# Altium schematic symbol library Sykam-LagerBauteile1.SchLib: 51 symbols (part 1 of 3)
Pins are listed as number, name and electrical type; pins without a type are passive.

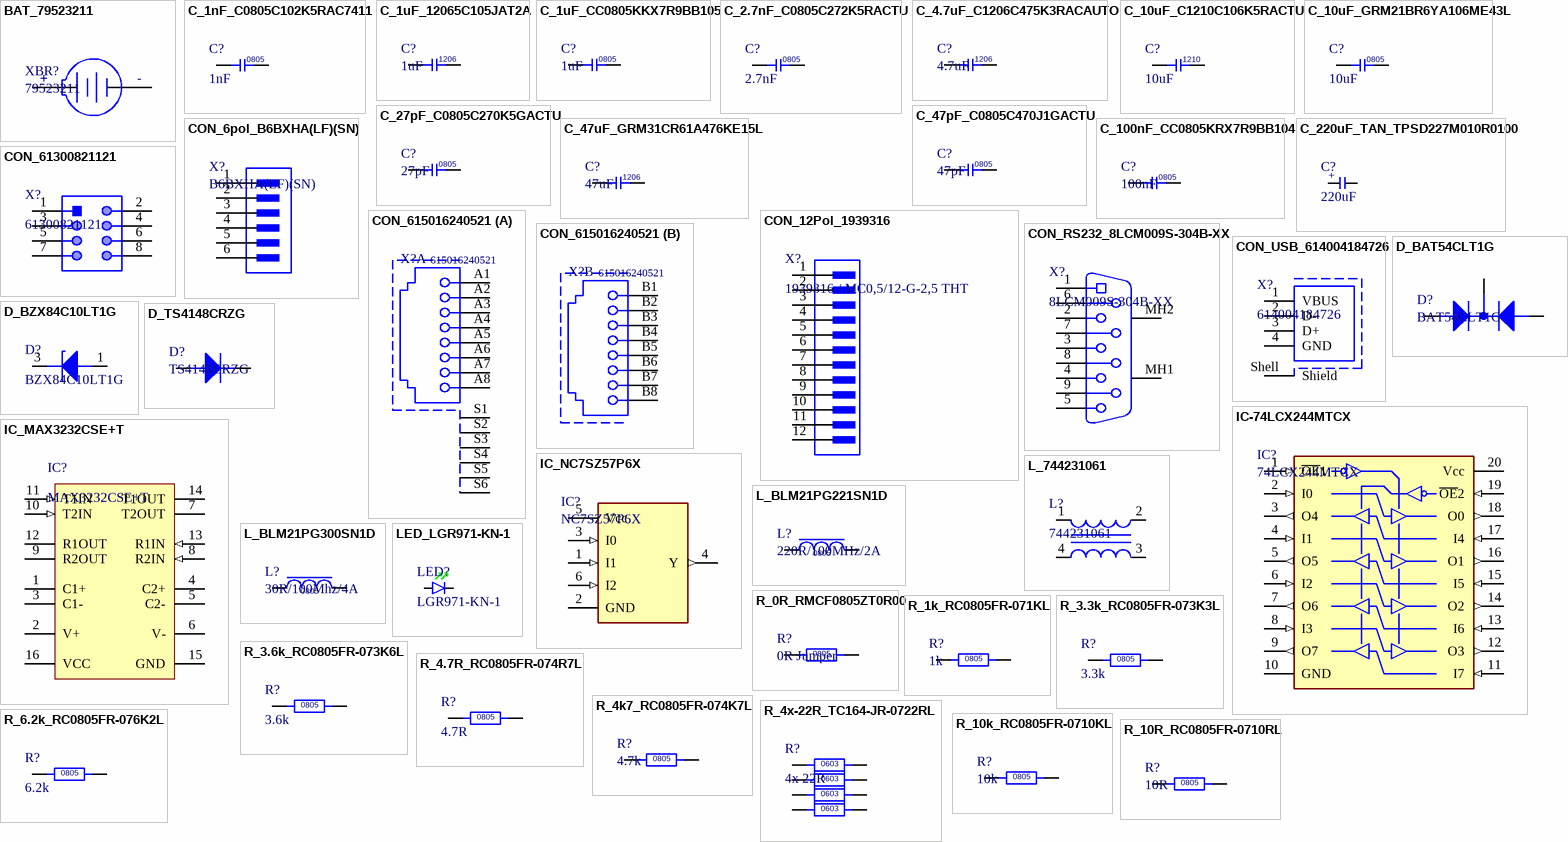
[diagram p0: symbols BAT_79523211 to R_10R_RC0805FR-0710RL]

## BAT_79523211
designator XBR?, comment 79523211
BATTERY RETAINER COIN PC PIN THT for 2016, 2020, 2025 2032.; Manufacturer: Wurth Electronics; Number of Cells: 1; PCBChecked: initials after Checked; Supplier 1: Digi-Key; Manufacturer Part Number: 79523211; RoHS: No; Mount: Through Hole,PCB; Termination: PC Pin; ComponentLink1URL: https://datasheet.ciiva.com/70868/79523211-70868826.pdf?src-supplier=Digi-Key; ComponentLink1Description: https://datasheet.ciiva.com/70868/79523211-70868826.pdf?src-supplier=Digi-Key; Supplier Part Number 1: 732-12324-ND; Stock 1: 697; IPC7352C: done; SCHChecked: Initials after checked
footprint BAT_79523211 (Battery Holder, Battery Type: 2016,2020,2025,2032)
pins: 1 +, 2 -

## C_1nF_C0805C102K5RAC7411
designator C?, comment 1nF
Multilayer Ceramic Capacitors MLCC - SMD/SMT 50volts 1000pF X7R 10%; Manufacturer: KEMET; Manufacturer Part Number: C0805C102K5RAC7411; Voltage Rating: 50V; Supplier 1: Digi-Key; RoHS: Yes; Category: Ceramic Capacitors; Stock 1: 30000; Pricing 1: 15000=0,01862, 30000=0,01764 (USD); Mount: Surface Mount; Case/Package: 0805; Case Code (Metric): 2012; Case Code (Imperial): 0805; Dielectric Material: Ceramic; Min Operating Temperature: -55°C; Max Operating Temperature: 125°C; Termination: SMD/SMT; Capacitance: 1nF; Package Quantity: 15000; Voltage Rating (DC): 50V; Tolerance: 10%; Packaging: Tape and Reel; Dielectric: X7R; Length: 0.079inch; Height: 0.78mm; Thickness: 0.035inch; Width: 0.049inch; ComponentLink1URL: http://components.arrow.com/part/dataview/0323_00324664?src-supplier=Arrow+Europe; ComponentLink1Description: http://components.arrow.com/part/dataview/0323_00324664?src-supplier=Arrow+Europe; ComponentLink2URL: http://www.mouser.com/ds/2/212/KEM_C1002_X7R_SMD-1102033.pdf?src-supplier=Mouser; ComponentLink2Description: http://www.mouser.com/ds/2/212/KEM_C1002_X7R_SMD-1102033.pdf?src-supplier=Mouser; ComponentLink3URL: https://api.kemet.com/component-edge/download/datasheet/C0805C102K5RAC7411.pdf?src-supplier=Digi-Key; ComponentLink3Description: https://api.kemet.com/component-edge/download/datasheet/C0805C102K5RAC7411.pdf?src-supplier=Digi-Key; Supplier Part Number 1: 399-7361-2-ND
footprint C0805 (Chip Capacitor, 2-Leads, Body 2,00x1,25mm, IPC Medium Density)
pins: 1, 2

## C_1uF_12065C105JAT2A
designator C?, comment 1uF
CERAMIC CAPACITOR, 1UF, 50V, X7R, 5%, 1206, FULL REEL; Product Range:-; Capacitance:1 F; Capacitance Tolerance: 5%; Dielectric Characteristic:X7R; Voltage Rating:50V; Ceramic Capacitor Case:1206 [3216 Metric]; Packaging:Tape & Reel ;RoHS Compliant: Yes; Manufacturer Part Number: 12065C105JAT2A; Manufacturer: Kyocera AVX; Dissipation Factor: 2.5%; PCBChecked: initials after Checked; Supplier 1: Digi-Key; RoHS: Yes; Category: Ceramic Capacitors; Mount: Surface Mount; Case/Package: 1206; Number of Pins: 2; Case Code (Metric): 3216; Case Code (Imperial): 1206; Min Operating Temperature: -55°C; Max Operating Temperature: 125°C; Dielectric: X7R; Capacitance: 1uF; Tolerance: 5%; Voltage Rating: 50V; Packaging: Tape and Reel; Package Quantity: 2000; Voltage Rating (DC): 50V; Termination: SMD/SMT; Length: 3.2mm; Height: 1.78mm; Width: 0.063inch; Thickness: 0.07inch; Depth: 1.6mm; Radiation Hardening: No; REACH SVHC: No SVHC; Lead Free: Lead Free; ComponentLink1URL: https://datasheet.ciiva.com/218/cx7r-218525.pdf?src-supplier=Digi-Key; ComponentLink1Description: https://datasheet.ciiva.com/218/cx7r-218525.pdf?src-supplier=Digi-Key; ComponentLink2URL: https://datasheet.ciiva.com/5422/cx7r-218113-5422269.pdf?src-supplier=Mouser; ComponentLink2Description: https://datasheet.ciiva.com/5422/cx7r-218113-5422269.pdf?src-supplier=Mouser; ComponentLink3URL: https://datasheet.ciiva.com/11531/cx7r-11531662.pdf?src-supplier=Avnet; ComponentLink3Description: https://datasheet.ciiva.com/11531/cx7r-11531662.pdf?src-supplier=Avnet; Supplier Part Number 1: 478-10884-1-ND; Stock 1: 10741; IPC7352C: done; SCHChecked: Initials after checked
footprint C1206 (Chip Capacitor, 2-Leads, Body 3,35x2,50mm, IPC Medium Density)
pins: 1, 2

## C_1uF_CC0805KKX7R9BB105
designator C?, comment 1uF
Cap Ceramic 1uF 50V X7R 10% SMD 0805 125C Blister T/R; Manufacturer Part Number: CC0805KKX7R9BB105; Manufacturer: Yageo; PCBChecked: initials after Checked; Supplier 1: Digi-Key; RoHS: Yes; Category: Ceramic Capacitors; Mount: Surface Mount; Case/Package: 0805; Weight: 0.000194oz; Case Code (Imperial): 0805; Case Code (Metric): 2012; Min Operating Temperature: -55°C; Max Operating Temperature: 125°C; Tolerance: 10%; Dielectric: X7R; Packaging: Tape and Reel; Capacitance: 1uF; Voltage Rating: 50V; Voltage Rating (DC): 50V; Termination: SMD/SMT; Composition: Ceramic; Length: 2mm; Height: 1.25mm; Width: 0.049inch; Thickness: 0.057inch; Depth: 1.25mm; Radiation Hardening: No; Lead Free: Lead Free; Halogen Free: Halogen Free; ComponentLink1URL: https://datasheet.ciiva.com/13209/upy-gphc-x7r-6-3v-to-50v-8-12304-13209375.pdf?src-supplier=Mouser; ComponentLink1Description: https://datasheet.ciiva.com/13209/upy-gphc-x7r-6-3v-to-50v-8-12304-13209375.pdf?src-supplier=Mouser; Supplier Part Number 1: 311-1886-6-ND; Stock 1: 325114; IPC7352C: done; SCHChecked: Initials after checked
footprint C0805 (Chip Capacitor, 2-Leads, Body 2,00x1,25mm, IPC Medium Density)
pins: 1, 2

## C_2.7nF_C0805C272K5RACTU
designator C?, comment 2.7nF
KEMET         C0805C272K5RACTU             SMD Multilayer Ceramic Capacitor, 0805 [2012 Metric], 2700 pF, 50 V,  10%, X7R, C Series; Voltage Rating: 50V; Dissipation Factor: 2.5%; Supplier 1: Digi-Key; Manufacturer: KEMET; Manufacturer Part Number: C0805C272K5RACTU; RoHS: Yes; Category: Ceramic Capacitors; Stock 1: 17634; Pricing 1: 1=0,21000, 10=0,14200, 100=0,07210, 500=0,04934, 1000=0,04364 (USD); Mount: Surface Mount,PCB; Case/Package: 0805; Number of Pins: 2; Dielectric Material: Ceramic; Case Code (Imperial): 0805; Case Code (Metric): 2012; Min Operating Temperature: -55°C; Max Operating Temperature: 125°C; Capacitance: 2.7nF; Tolerance: 10%; Packaging: Tape and Reel; Voltage Rating (DC): 50V; Dielectric: X7R; Termination: SMD/SMT; Package Quantity: 4000; Voltage: 50V; Length: 2mm; Height: 0.78mm; Width: 1.2mm; Lead Pitch: 0.75mm; Depth: 1.25mm; Thickness: 0.035inch; Radiation Hardening: No; REACH SVHC: No SVHC; ComponentLink1URL: https://datasheet.ciiva.com/14589/70095383-14589404.pdf?src-supplier=Allied+Electronics; ComponentLink1Description: https://datasheet.ciiva.com/14589/70095383-14589404.pdf?src-supplier=Allied+Electronics; Supplier Part Number 1: 399-1152-1-ND
footprint C0805 (Chip Capacitor, 2-Leads, Body 2,00x1,25mm, IPC Medium Density)
pins: 1, 2

## C_4.7uF_C1206C475K3RACAUTO
designator C?, comment 4.7uF
KEMET - C1206C475K3RACAUTO - SMD Multilayer Ceramic Capacitor, AEC-Q200, 4.7 µF, 25 V, 1206 [3216 Metric], ± 10%, X7R; Voltage Rating: 25V; PCBChecked: initials after Checked; Supplier 1: Digi-Key; Manufacturer Part Number: C1206C475K3RACAUTO; RoHS: Yes; Category: Ceramic Capacitors; Mount: Surface Mount; Case/Package: 1206; Case Code (Imperial): 1206; Case Code (Metric): 3216; Dielectric Material: Ceramic; Contact Plating: Tin,Matte; Min Operating Temperature: -55°C; Max Operating Temperature: 125°C; Package Quantity: 1; Capacitance: 4.7uF; Tolerance: 10%; Packaging: Cut Tape; Voltage Rating (DC): 25V; Dielectric: X7R; Length: 3.2mm; Height: 1.6mm; Width: 0.063inch; Thickness: 0.071inch; Depth: 1.6mm; Ratings: AEC-Q200; Radiation Hardening: No; REACH SVHC: No SVHC; ComponentLink1URL: https://datasheet.ciiva.com/7729/1788389-7729946.pdf?src-supplier=Element14; ComponentLink1Description: https://datasheet.ciiva.com/7729/1788389-7729946.pdf?src-supplier=Element14; ComponentLink2URL: https://datasheet.ciiva.com/22699/1788389-22699772.pdf?src-supplier=Element14; ComponentLink2Description: https://datasheet.ciiva.com/22699/1788389-22699772.pdf?src-supplier=Element14; Supplier Part Number 1: 399-7029-6-ND; Manufacturer: KEMET; Stock 1: 70225; IPC7352C: done; SCHChecked: Initials after checked
footprint C1206 (Chip Capacitor, 2-Leads, Body 3,35x2,50mm, IPC Medium Density)
pins: 1, 2

## C_10uF_C1210C106K5RACTU
designator C?, comment 10uF
CAP CER 10UF 50V X7R 1210; Manufacturer: KEMET; Manufacturer Part Number: C1210C106K5RACTU; Dielectric Material: Ceramic; Tolerance: 10%; Supplier 1: Digi-Key; RoHS: Yes; Category: Ceramic Capacitors; Stock 1: 21988; Pricing 1: 1=0,90000, 10=0,66400, 100=0,45540, 500=0,36052 (USD); Mount: Surface Mount; Case/Package: 1210; Weight: 0.000564oz; Case Code (Metric): 3225; Case Code (Imperial): 1210; Min Operating Temperature: -55°C; Max Operating Temperature: 125°C; Packaging: Tape and Reel; Voltage Rating: 50V; Voltage: 50V; Dielectric: X7R; Termination: SMD/SMT; Voltage Rating (DC): 50V; Package Quantity: 1000; Capacitance: 10uF; Length: 3.2mm; Height: 2.5mm; Width: 2.5mm; Thickness: 0.11inch; Depth: 2.5mm; REACH SVHC: No SVHC; ComponentLink1URL: http://www.mouser.com/ds/2/212/KEM_C1002_X7R_SMD-357932.pdf?src-supplier=Mouser; ComponentLink1Description: http://www.mouser.com/ds/2/212/KEM_C1002_X7R_SMD-357932.pdf?src-supplier=Mouser; ComponentLink2URL: http://uk.rs-online.com/webdocs/1515/0900766b8151523b.pdf?src-supplier=RSComponents; ComponentLink2Description: http://uk.rs-online.com/webdocs/1515/0900766b8151523b.pdf?src-supplier=RSComponents; ComponentLink3URL: http://www.farnell.com/datasheets/2740742.pdf?src-supplier=Farnell; ComponentLink3Description: http://www.farnell.com/datasheets/2740742.pdf?src-supplier=Farnell; ComponentLink4URL: https://api.kemet.com/component-edge/download/datasheet/C1210C106K5RACTU.pdf?src-supplier=Digi-Key; ComponentLink4Description: https://api.kemet.com/component-edge/download/datasheet/C1210C106K5RACTU.pdf?src-supplier=Digi-Key; ComponentLink5URL: http://capacitoredge.kemet.com/capedge2/DataSheet/Datasheet-C0402C471J3GACTU.pdf?pn=C1210C106K5RACTU&src-supplier=Avnet; ComponentLink5Description: http://capacitoredge.kemet.com/capedge2/DataSheet/Datasheet-C0402C471J3GACTU.pdf?pn=C1210C106K5RACTU&src-supplier=Avnet; ComponentLink6URL: http://www.farnell.com/datasheets/2740742.pdf?src-supplier=Element14; ComponentLink6Description: http://www.farnell.com/datasheets/2740742.pdf?src-supplier=Element14; ComponentLink7URL: http://capacitoredge.kemet.com/capedge2/DataSheet/Datasheet-C1210C106K5RACTU.pdf?pn=C1210C106K5RACTU&src-supplier=Avnet; ComponentLink7Description: http://capacitoredge.kemet.com/capedge2/DataSheet/Datasheet-C1210C106K5RACTU.pdf?pn=C1210C106K5RACTU&src-supplier=Avnet; ComponentLink8URL: http://www.farnell.com/datasheets/1886292.pdf?src-supplier=Newark; ComponentLink8Description: http://www.farnell.com/datasheets/1886292.pdf?src-supplier=Newark; ComponentLink9URL: http://www.farnell.com/datasheets/2740742.pdf?src-supplier=Newark; ComponentLink9Description: http://www.farnell.com/datasheets/2740742.pdf?src-supplier=Newark; Supplier Part Number 1: 399-11629-1-ND
footprint C1210 (Chip Capacitor, 2-Leads, Body 3.40x2.70mm, IPC High Density)
pins: 1, 2

## C_10uF_GRM21BR6YA106ME43L
designator C?, comment 10uF
0805 10 uF 50 V ±20% Tolerance X5R Multilayer Ceramic Capacitor; Manufacturer: Murata; Manufacturer Part Number: GRM21BR6YA106ME43L; Voltage Rating: 35V; Supplier 1: Digi-Key; RoHS: Yes; Category: Ceramic Capacitors; Stock 1: 143980; Pricing 1: 1=0,48000, 10=0,33200, 100=0,19920, 500=0,14942, 1000=0,12617 (USD); Mount: Surface Mount; Case/Package: 0805; Weight: 0.000335oz; Case Code (Imperial): 0805; Case Code (Metric): 2012; Min Operating Temperature: -55°C; Max Operating Temperature: 85°C; Tolerance: 20%; Capacitance: 10uF; Packaging: Tape and Reel; Dielectric: X5R; Termination: SMD/SMT; Voltage Rating (DC): 35V; Package Quantity: 3000; Length: 0.079inch; Height: 1.25mm; Width: 0.049inch; Thickness: 0.057inch; ComponentLink1URL: http://www.mouser.com/ds/2/281/c02e-2905.pdf?src-supplier=Mouser; ComponentLink1Description: http://www.mouser.com/ds/2/281/c02e-2905.pdf?src-supplier=Mouser; ComponentLink2URL: http://search.murata.co.jp/Ceramy/image/img/A01X/G101/ENG/GRM21BR6YA106ME43-01.pdf?src-supplier=Digi-Key; ComponentLink2Description: http://search.murata.co.jp/Ceramy/image/img/A01X/G101/ENG/GRM21BR6YA106ME43-01.pdf?src-supplier=Digi-Key; Supplier Part Number 1: 490-10515-6-ND
footprint C0805 (Chip Capacitor, 2-Leads, Body 2,00x1,25mm, IPC Medium Density)
pins: 1, 2

## C_27pF_C0805C270K5GACTU
designator C?, comment 27pF
KEMET - C0805C270K5GACTU - CAP, 27PF, 50V, 10%, C0G/NP0, 0805; Dielectric Material: Ceramic; Dielectric: C0G; PCBChecked: initials after Checked; Supplier 1: Digi-Key; Manufacturer Part Number: C0805C270K5GACTU; RoHS: Yes; Category: Ceramic Capacitors; Mount: Surface Mount; Case/Package: 0805; Case Code (Metric): 2012; Case Code (Imperial): 0805; Contact Plating: Tin,Matte; Min Operating Temperature: -55°C; Max Operating Temperature: 125°C; Termination: SMD/SMT; Package Quantity: 4000; Capacitance: 27pF; Voltage Rating: 50V; Tolerance: 10%; Packaging: Tape and Reel; Voltage Rating (DC): 50V; Length: 2mm; Height: 0.78mm; Thickness: 0.035inch; Lead Pitch: 0.75mm; Depth: 1.25mm; Width: 0.049inch; Radiation Hardening: No; REACH SVHC: No SVHC; Lead Free: Lead Free; ComponentLink1URL: http://www.mouser.com/ds/2/212/KEM_C1003_C0G_SMD-1101588.pdf?src-supplier=Mouser; ComponentLink1Description: http://www.mouser.com/ds/2/212/KEM_C1003_C0G_SMD-1101588.pdf?src-supplier=Mouser; ComponentLink2URL: http://components.arrow.com/part/dataview/0323_00328397?src-supplier=Arrow+Europe; ComponentLink2Description: http://components.arrow.com/part/dataview/0323_00328397?src-supplier=Arrow+Europe; ComponentLink3URL: http://www.farnell.com/datasheets/2746364.pdf?src-supplier=Farnell; ComponentLink3Description: http://www.farnell.com/datasheets/2746364.pdf?src-supplier=Farnell; ComponentLink4URL: https://api.kemet.com/component-edge/download/datasheet/C0805C270K5GACTU.pdf?src-supplier=Digi-Key; ComponentLink4Description: https://api.kemet.com/component-edge/download/datasheet/C0805C270K5GACTU.pdf?src-supplier=Digi-Key; ComponentLink5URL: http://www.farnell.com/datasheets/2746364.pdf?src-supplier=Element14; ComponentLink5Description: http://www.farnell.com/datasheets/2746364.pdf?src-supplier=Element14; ComponentLink6URL: http://components.arrow.com/part/dataview/2091870S2896258N7429?src-supplier=Arrow; ComponentLink6Description: http://components.arrow.com/part/dataview/2091870S2896258N7429?src-supplier=Arrow; ComponentLink7URL: http://capacitoredge.kemet.com/capedge2/DataSheet?pn=C0805C270K5GACTU&src-supplier=Avnet; ComponentLink7Description: http://capacitoredge.kemet.com/capedge2/DataSheet?pn=C0805C270K5GACTU&src-supplier=Avnet; Supplier Part Number 1: 399-8056-1-ND; Manufacturer: KEMET; Stock 1: 18985; IPC7352C: done; SCHChecked: Initials after checked
footprint C0805 (Chip Capacitor, 2-Leads, Body 2,00x1,25mm, IPC Medium Density)
pins: 1, 2

## C_47pF_C0805C470J1GACTU
designator C?, comment 47pF
Capacitor: ceramic; MLCC; 47pF; 100V; C0G; ±5%; SMD; 0805; Manufacturer Part Number: C0805C470J1GACTU; Manufacturer: KEMET; Temperature Coefficient: 30ppm/°C; PCBChecked: initials after Checked; Supplier 1: Digi-Key; RoHS: Yes; Category: Ceramic Capacitors; Mount: Surface Mount; Case/Package: 0805; Number of Pins: 2; Case Code (Metric): 2012; Case Code (Imperial): 0805; Contact Material: Tin; Dielectric Material: Ceramic; Min Operating Temperature: -55°C; Max Operating Temperature: 125°C; Capacitance: 47pF; Tolerance: 5%; Packaging: Tape and Reel; Voltage Rating: 100V; Package Quantity: 1; Voltage Rating (DC): 100V; Dielectric: C0G; Termination: SMD/SMT; Voltage: 100V; Length: 2mm; Height: 0.78mm; Width: 0.049inch; Thickness: 0.035inch; Lead Pitch: 0.75mm; Depth: 1.25mm; Radiation Hardening: No; REACH SVHC: No SVHC; Lead Free: Lead Free; ComponentLink1URL: https://datasheet.ciiva.com/28668/1789732-28668806.pdf?src-supplier=Element14; ComponentLink1Description: https://datasheet.ciiva.com/28668/1789732-28668806.pdf?src-supplier=Element14; ComponentLink2URL: https://datasheet.ciiva.com/7842/40889-7842330.pdf?src-supplier=Element14; ComponentLink2Description: https://datasheet.ciiva.com/7842/40889-7842330.pdf?src-supplier=Element14; ComponentLink3URL: https://datasheet.ciiva.com/22705/40889-22705466.pdf?src-supplier=Element14; ComponentLink3Description: https://datasheet.ciiva.com/22705/40889-22705466.pdf?src-supplier=Element14; ComponentLink4URL: https://datasheet.ciiva.com/11463/kem-c1003-c0g-smd-11463581.pdf?src-supplier=Avnet; ComponentLink4Description: https://datasheet.ciiva.com/11463/kem-c1003-c0g-smd-11463581.pdf?src-supplier=Avnet; ComponentLink5URL: https://datasheet.ciiva.com/16624/kem-c1003-c0g-smd-16624990.pdf?src-supplier=Avnet+Europe; ComponentLink5Description: https://datasheet.ciiva.com/16624/kem-c1003-c0g-smd-16624990.pdf?src-supplier=Avnet+Europe; Supplier Part Number 1: 399-8079-1-ND; Stock 1: 31116; IPC7352C: done; SCHChecked: Initials after checked
footprint C0805 (Chip Capacitor, 2-Leads, Body 2,00x1,25mm, IPC Medium Density)
pins: 1, 2

## C_47uF_GRM31CR61A476KE15L
designator C?, comment 47uF
Multilayer Ceramic Capacitors MLCC - SMD/SMT 1206 47uF 10Vdc X5R +/-10%; Manufacturer Part Number: GRM31CR61A476KE15L; Manufacturer: Murata; Voltage: 10V; Tolerance: 10%; PCBChecked: initials after Checked; Supplier 1: Digi-Key; RoHS: Yes; Category: Ceramic Capacitors; Mount: Surface Mount; Case/Package: 1206; Material: Ceramic; Case Code (Metric): 3216; Case Code (Imperial): 1206; Min Operating Temperature: -55°C; Max Operating Temperature: 85°C; Termination: SMD/SMT; Dielectric: X5R; Package Quantity: 2000; Packaging: Tape and Reel; Capacitance: 47uF; Voltage Rating: 10V; Voltage Rating (DC): 10V; Length: 3.2mm; Height: 1.6mm; Thickness: 0.071inch; Depth: 1.6mm; Width: 1.6mm; Lead Free: Lead Free; REACH SVHC: No SVHC; ComponentLink1URL: https://datasheet.ciiva.com/29536/grm31cr61a476ke15-01-29536840.pdf?src-supplier=Digi-Key; ComponentLink1Description: https://datasheet.ciiva.com/29536/grm31cr61a476ke15-01-29536840.pdf?src-supplier=Digi-Key; ComponentLink2URL: https://datasheet.ciiva.com/13337/product-13337807.pdf?src-supplier=Mouser; ComponentLink2Description: https://datasheet.ciiva.com/13337/product-13337807.pdf?src-supplier=Mouser; ComponentLink3URL: https://datasheet.ciiva.com/46445/1769893-46445004.pdf?src-supplier=Element14; ComponentLink3Description: https://datasheet.ciiva.com/46445/1769893-46445004.pdf?src-supplier=Element14; ComponentLink4URL: https://datasheet.ciiva.com/41860/partnumbering-e-01-41860758.pdf?src-supplier=Digi-Key; ComponentLink4Description: https://datasheet.ciiva.com/41860/partnumbering-e-01-41860758.pdf?src-supplier=Digi-Key; ComponentLink5URL: https://datasheet.ciiva.com/46445/1769893-46445005.pdf?src-supplier=Element14; ComponentLink5Description: https://datasheet.ciiva.com/46445/1769893-46445005.pdf?src-supplier=Element14; Supplier Part Number 1: 490-9673-6-ND; Stock 1: 70720; IPC7352C: done; SCHChecked: Initials after checked
footprint C1206 (Chip Capacitor, 2-Leads, Body 3,35x2,50mm, IPC Medium Density)
pins: 1, 2

## C_100nF_CC0805KRX7R9BB104
designator C?, comment 100nF
CAP CER 0.1UF 50V X7R 0805; Manufacturer Part Number: CC0805KRX7R9BB104; Manufacturer: Yageo; Material: Ceramic; Tolerance: 10%; Insulation Resistance: 100GR; PCBChecked: initials after Checked; Supplier 1: Digi-Key; RoHS: Yes; Category: Ceramic Capacitors; Mount: Surface Mount; Case/Package: 0805; Number of Pins: 2; Case Code (Metric): 2012; Case Code (Imperial): 0805; Min Operating Temperature: -55°C; Max Operating Temperature: 125°C; Packaging: Tape and Reel; Capacitance: 100nF; Voltage Rating: 50V; Package Quantity: 1; Dielectric: X7R; Termination: SMD/SMT; Voltage: 50V; Length: 2mm; Height: 0.85mm; Width: 0.049inch; Thickness: 0.033inch; Depth: 1.25mm; Radiation Hardening: No; REACH SVHC: No SVHC; Lead Free: Lead Free; Halogen Free: Halogen Free; ComponentLink1URL: https://datasheet.ciiva.com/11786/0900766b80d84f1d-11786009.pdf?src-supplier=RSComponents; ComponentLink1Description: https://datasheet.ciiva.com/11786/0900766b80d84f1d-11786009.pdf?src-supplier=RSComponents; ComponentLink2URL: https://datasheet.ciiva.com/11464/upy-gphc-x7r-6-3v-to-50v-8-11464757.pdf?src-supplier=Avnet; ComponentLink2Description: https://datasheet.ciiva.com/11464/upy-gphc-x7r-6-3v-to-50v-8-11464757.pdf?src-supplier=Avnet; ComponentLink3URL: https://datasheet.ciiva.com/28450/1489800-28450805.pdf?src-supplier=Element14; ComponentLink3Description: https://datasheet.ciiva.com/28450/1489800-28450805.pdf?src-supplier=Element14; ComponentLink4URL: https://datasheet.ciiva.com/155/mlccorderingcode-155929.pdf?src-supplier=Digi-Key; ComponentLink4Description: https://datasheet.ciiva.com/155/mlccorderingcode-155929.pdf?src-supplier=Digi-Key; ComponentLink5URL: https://datasheet.ciiva.com/155/mlccorderingcode-155930.pdf?src-supplier=Digi-Key; ComponentLink5Description: https://datasheet.ciiva.com/155/mlccorderingcode-155930.pdf?src-supplier=Digi-Key; ComponentLink6URL: https://datasheet.ciiva.com/155/mlccorderingcode-155931.pdf?src-supplier=Digi-Key; ComponentLink6Description: https://datasheet.ciiva.com/155/mlccorderingcode-155931.pdf?src-supplier=Digi-Key; ComponentLink7URL: https://datasheet.ciiva.com/46393/1734573-46393307.pdf?src-supplier=Element14; ComponentLink7Description: https://datasheet.ciiva.com/46393/1734573-46393307.pdf?src-supplier=Element14; ComponentLink8URL: https://datasheet.ciiva.com/16625/upy-gphc-x7r-6-3v-to-50v-8-16625549.pdf?src-supplier=Avnet+Europe; ComponentLink8Description: https://datasheet.ciiva.com/16625/upy-gphc-x7r-6-3v-to-50v-8-16625549.pdf?src-supplier=Avnet+Europe; ComponentLink9URL: https://datasheet.ciiva.com/29242/445210-da-01-en-kerko-chip-0805-x7r-0-1uf-10proz-50vg-29242074.pdf?src-supplier=Conrad; ComponentLink9Description: https://datasheet.ciiva.com/29242/445210-da-01-en-kerko-chip-0805-x7r-0-1uf-10proz-50vg-29242074.pdf?src-supplier=Conrad; Supplier Part Number 1: 311-1140-6-ND; Stock 1: 7118979; IPC7352C: done; SCHChecked: Initials after checked
footprint C0805 (Chip Capacitor, 2-Leads, Body 2,00x1,25mm, IPC Medium Density)
pins: 1, 2

## C_220uF_TAN_TPSD227M010R0100
designator C?, comment 220uF
CAPACITOR, TANTALUM; Manufacturer: Kyocera AVX; Manufacturer Part Number: TPSD227M010R0100; Voltage Rating: 10V; Tolerance: 20%; ESR (Equivalent Series Resistance): 100mR; Ripple Current: 490uA; Leakage Current: 22uA; Polarity: Polar; Dissipation Factor: 8%; Supplier 1: Digi-Key; RoHS: Yes; Category: Tantalum Capacitors; Stock 1: 5000; Pricing 1: 1=2,79000, 10=2,25600, 100=1,72250 (USD); Mount: Surface Mount; Case/Package: 7343-31; Number of Pins: 2; Case Code (Metric): 7343; Case Code (Imperial): 2917; Dielectric Material: Tantalum; Min Operating Temperature: -55°C; Max Operating Temperature: 125°C; Package Quantity: 1; Capacitance: 220uF; Packaging: Tape and Reel; Termination: SMD/SMT; Features: General Purpose; Voltage Rating (DC): 10V; Length: 7.3mm; Height: 2.9mm; Width: 0.169inch; Height - Seated (Max): 0.122inch; Depth: 4.3mm; Radiation Hardening: No; REACH SVHC: No SVHC; Lead Free: Lead Free; ComponentLink1URL: https://datasheet.ciiva.com/27051/1154301-27051500.pdf?src-supplier=Jameco; ComponentLink1Description: https://datasheet.ciiva.com/27051/1154301-27051500.pdf?src-supplier=Jameco; ComponentLink2URL: https://datasheet.ciiva.com/26787/tpsd227m010r0100-26787075.pdf?src-supplier=IIIC; ComponentLink2Description: https://datasheet.ciiva.com/26787/tpsd227m010r0100-26787075.pdf?src-supplier=IIIC; ComponentLink3URL: https://datasheet.ciiva.com/265/tps-265200.pdf?src-supplier=Digi-Key; ComponentLink3Description: https://datasheet.ciiva.com/265/tps-265200.pdf?src-supplier=Digi-Key; ComponentLink4URL: https://datasheet.ciiva.com/265/tps-265201.pdf?src-supplier=Digi-Key; ComponentLink4Description: https://datasheet.ciiva.com/265/tps-265201.pdf?src-supplier=Digi-Key; ComponentLink5URL: https://datasheet.ciiva.com/265/tps-265199.pdf?src-supplier=Digi-Key; ComponentLink5Description: https://datasheet.ciiva.com/265/tps-265199.pdf?src-supplier=Digi-Key; ComponentLink6URL: https://datasheet.ciiva.com/5935/1441576-5935727.pdf?src-supplier=Farnell; ComponentLink6Description: https://datasheet.ciiva.com/5935/1441576-5935727.pdf?src-supplier=Farnell; Supplier Part Number 1: 478-4110-1-ND
footprint C_220uF_TAN_TPSD227M010R0100
pins: 1, 2
text: +

## CON_6pol_B6BXHA(LF)(SN)
designator X?, comment B6BXHA(LF)(SN)
CONN HEADER VERT 6POS 2.5MM; Manufacturer: JST; Current Rating: 3A; Number of Positions: 6; Contact Resistance: 20mR; Max Voltage Rating (AC): 250V; Connector Type: Male Pin; Insulation Resistance: 1GR; Wire/Cable Gauge: 22AWG; PCBChecked: initials after Checked; Supplier 1: Digi-Key; Manufacturer Part Number: B6BXHA(LF)(SN); RoHS: Yes; Category: FFC / FPC; Mount: Through Hole; Contact Plating: Tin,Lead,Copper; Contact Material: Brass; Color: Natural; Housing Color: White; Housing Material: Polyamide; Min Operating Temperature: -25°C; Max Operating Temperature: 85°C; Termination: Press-Fit; Number of Rows: 1; Max Current Rating: 3A; Packaging: Bulk; Orientation: Straight; Voltage Rating (AC): 250V; Voltage Rating: 250V; Number of Contacts: 6; Max Voltage Rating (DC): 250V; Package Quantity: 500; Length: 17.4mm; Pitch: 2.5mm; Depth: 5.75mm; Lead Pitch: 2.5mm; Lead Free: Lead Free; REACH SVHC: No SVHC; ComponentLink1URL: https://datasheet.ciiva.com/26894/getdatasheetpartid-424647-26894806.pdf?src-supplier=Verical; ComponentLink1Description: https://datasheet.ciiva.com/26894/getdatasheetpartid-424647-26894806.pdf?src-supplier=Verical; ComponentLink2URL: https://datasheet.ciiva.com/26894/getdatasheetpartid-641012-26894489.pdf?src-supplier=Verical; ComponentLink2Description: https://datasheet.ciiva.com/26894/getdatasheetpartid-641012-26894489.pdf?src-supplier=Verical; ComponentLink3URL: https://datasheet.ciiva.com/20207/523653-20207177.pdf?src-supplier=Rapid+Electronics; ComponentLink3Description: https://datasheet.ciiva.com/20207/523653-20207177.pdf?src-supplier=Rapid+Electronics; ComponentLink4URL: https://datasheet.ciiva.com/16397/b6b-xh-alfsn-16397116.pdf?src-supplier=Future+Electronics; ComponentLink4Description: https://datasheet.ciiva.com/16397/b6b-xh-alfsn-16397116.pdf?src-supplier=Future+Electronics; ComponentLink5URL: https://datasheet.ciiva.com/712/exh-712511.pdf?src-supplier=Digi-Key; ComponentLink5Description: https://datasheet.ciiva.com/712/exh-712511.pdf?src-supplier=Digi-Key; Supplier Part Number 1: 455-2271-ND; IPC7352C: done; SCHChecked: Initials after checked
footprint B6BXHA(LF)(SN) (B6BXHA(LF)(SN) 6pol 2.5mm)
pins: 1, 2, 3, 4, 5, 6

## CON_12Pol_1939316
designator X?, comment 1939316 / MC0,5/12-G-2,5 THT
Pluggable Terminal Blocks 12 Pos 2.5mm pitch Through Hole Header; Manufacturer: Phoenix Contact; Voltage Rating: 32V; Current Rating: 4A; Number of Positions: 12; Number of Levels: 1; Voltage: 125V; Supplier 1: Mouser; Manufacturer Part Number: 1939316; RoHS: Yes; Category: Terminal Blocks; Stock 1: 54; Pricing 1: 1=5,16000, 10=5,02000, 25=4,90000, 50=4,69000, 100=4,32000, 250=3,99000 (USD); Mount: Through Hole; Weight: 2.716095oz; Contact Plating: Tin; Housing Color: Black; Color: Black; Termination: Solder; Packaging: Bulk; Number of Positions Per Level: 12; Number of Contacts: 12; Current: 4A; Package Quantity: 50; Pitch: 2.5mm; Flammability Rating: UL94 V-0; ComponentLink1URL: https://datasheet.ciiva.com/29689/microcombiconheaders-29689372.pdf?src-supplier=Digi-Key; ComponentLink1Description: https://datasheet.ciiva.com/29689/microcombiconheaders-29689372.pdf?src-supplier=Digi-Key; Supplier Part Number 1: 651-1939316
footprint CON_Phoenix_1939316 (MC0.5/12-G-2.5 THT 12pol 2.5mm)
pins: 1, 2, 3, 4, 5, 6, 7, 8, 9, 10, 11, 12

## CON_61300821121
designator X?, comment 61300821121
WURTH ELEKTRONIK - 61300821121 - Pin Header, Vertical, Board-to-Board, 2.54 mm, 2 Rows, 8 Contacts, Through Hole Straight; Manufacturer: Wurth Electronics; Number of Positions: 8; Gender: Male; Connector Type: Male Pin; Pitch: 0.1inch; Supplier 1: Farnell; Manufacturer Part Number: 61300821121; RoHS: Yes; Category: Connectors; Stock 1: 1233; Pricing 1: 10=0,35300, 100=0,32300, 250=0,32200, 500=0,32100, 1000=0,32000, 2500=0,31400 (EUR); Mount: Through Hole; Contact Plating: Gold; Contact Material: Copper; Color: Black; Number of Rows: 2; Packaging: Bulk; Termination: Solder; Number of Contacts: 8; Row Spacing: 0.1inch; Contact Mating Length: 0.236inch; REACH SVHC: Unknown; Lead Free: Lead Free; ComponentLink1URL: https://datasheet.ciiva.com/28505/1442180-28505510.pdf?src-supplier=Element14; ComponentLink1Description: https://datasheet.ciiva.com/28505/1442180-28505510.pdf?src-supplier=Element14; Supplier Part Number 1: 2356133
footprint CON_61300821121 (Pin Header, pitch 2.54 mm, THT, Vertical, dual row, 8p)
pins: 1, 2, 3, 4, 5, 6, 7, 8

## CON_615016240521
designator X?, comment 615016240521
Modular Jack WR-MJ, Tab Up & Down, Shielded, Dual Stacked Port with EMI Panel Finger, Horizontal Entry, THT, 8P8C; Manufacturer: Wurth Elektronik; Compliance: Leadfree/RoHS; Withstanding Voltage: 1000VAC; Working Voltage: 120VAC; Port: 2x1; Contact Resistance: 20mOhm; Rated Current: 1.5A; Entrance: Horizontal; Pin Number: 8P8C; Manufacturer URL: http://www.we-online.de; Operating Temperature: -40to85degC; Mounting Technology: THT; Datasheet URL: https://katalog.we-online.de/em/datasheet/615016240521.pdf; Packaging: Tray; Package Reference: 615016240521; Publisher: WurthElektronik; Part Number: 615016240521
footprint CON_CAN_615016240521 (Modular Jack Horizontal Shielded Dual Stacked with EMI Panel Finger 8P8C Tab Up&Down)
part A pins: A1, A2, A3, A4, A5, A6, A7, A8, S1, S2, S3, S4, S5, S6
part B pins: B1, B2, B3, B4, B5, B6, B7, B8

## CON_RS232_8LCM009S-304B-XX
designator X?, comment 8LCM009S-304B-XX
SOCKET, D PCB R/A 9 WAY - More Details; Manufacturer: Multicomp; Body Material: Steel,Metal; Gender: Receptacle; Number of Contacts: 9; Insulation Resistance: 5GR; Supplier 1: Farnell; Manufacturer Part Number: 8LCM009S-304B-XX; RoHS: Yes; Category: D-Sub Connectors; Stock 1: 31131; Pricing 1: 1=1,06000, 10=0,78600, 25=0,70500, 100=0,58300, 150=0,57200, 250=0,56100, 1000=0,54900, 1500=0,53700 (EUR); Mount: Socket; Material: Steel; Termination: Solder; REACH SVHC: No SVHC; ComponentLink1URL: https://datasheet.ciiva.com/1426/1661923-1426792.pdf?src-supplier=Element14; ComponentLink1Description: https://datasheet.ciiva.com/1426/1661923-1426792.pdf?src-supplier=Element14; ComponentLink2URL: https://datasheet.ciiva.com/1426/105896-1426793.pdf?src-supplier=Element14; ComponentLink2Description: https://datasheet.ciiva.com/1426/105896-1426793.pdf?src-supplier=Element14; Supplier Part Number 1: 1099294
footprint CON_8LCM009S-304B-XX (Connector, Body 30.8x18.4mm, Pitch 2.77mm)
pins: 1, 2, 3, 4, 5, 6, 7, 8, 9, MH1, MH2

## CON_USB_614004184726
designator X?, comment 614004184726
WURTH ELEKTRONIK - 614004184726 - USB Connector, USB Type A, USB 2.0, Receptacle, 4 Ways, Through Hole Mount, Right Angle; Manufacturer: Wurth Electronics; Number of Contacts: 4; USB Standard: USB 2.0; Supplier 1: Farnell; Manufacturer Part Number: 614004184726; RoHS: Yes; Category: Connectors; Stock 1: 731; Pricing 1: 1=1,02000, 50=0,90200, 100=0,73700, 250=0,72300, 500=0,70800, 1000=0,69400 (EUR); Mount: Through Hole,Vertical; Contact Material: Copper Alloy; Contact Plating: Gold; Housing Color: White; Packaging: Tray; Connector Type: USB; Gender: Receptacle; Orientation: Right Angle; REACH SVHC: No SVHC; ComponentLink1URL: http://www.farnell.com/datasheets/2113630.pdf?src-supplier=Farnell; ComponentLink1Description: http://www.farnell.com/datasheets/2113630.pdf?src-supplier=Farnell; ComponentLink2URL: http://www.farnell.com/datasheets/2113630.pdf?src-supplier=Newark; ComponentLink2Description: http://www.farnell.com/datasheets/2113630.pdf?src-supplier=Newark; ComponentLink3URL: https://katalog.we-online.de/em/datasheet/614004184726.pdf?src-supplier=Digi-Key; ComponentLink3Description: https://katalog.we-online.de/em/datasheet/614004184726.pdf?src-supplier=Digi-Key; ComponentLink4URL: http://www.farnell.com/datasheets/2113630.pdf?src-supplier=Element14; ComponentLink4Description: http://www.farnell.com/datasheets/2113630.pdf?src-supplier=Element14; Supplier Part Number 1: 2617113
footprint CON_614004184726 (USB 2.0 Type A Up Right THT)
pins: 1 VBUS, 2 D-, 3 D+, 4 GND, Shell Shield

## D_BAT54CLT1G
designator D?, comment BAT54CLT1G
Diode Schottky 30V 0.2A 3-Pin SOT-23 T/R; Manufacturer: ON Semiconductor; Forward Current: 200mA; Element Configuration: Common Cathode; Max Power Dissipation: 225mW; Recovery Time: 5ns; Max Reverse Leakage Current: 2uA; Peak Non-Repetitive Surge Current: 600mA; Capacitance: 10pF; Forward Voltage: 800mV; PCBChecked: initials after Checked; Supplier 1: Digi-Key; Manufacturer Part Number: BAT54CLT1G; RoHS: Yes; Category: Schottky Diodes; Case/Package: SOT-23-3; Number of Pins: 3; Contact Plating: Tin,Matte; Min Operating Temperature: -55°C; Max Operating Temperature: 125°C; Packaging: Tape and Reel; Package Quantity: 3000; Average Rectified Current: 200mA; Reverse Recovery Time: 5ns; Max Repetitive Reverse Voltage (Vrrm): 30V; Max Forward Surge Current (Ifsm): 600mA; Current Rating: 200mA; Voltage Rating (DC): 30V; Max Reverse Voltage (DC): 30V; Max Surge Current: 600mA; Power Dissipation: 225mW; Peak Reverse Current: 2uA; Length: 3.04mm; Height: 1.01mm; Width: 1.4mm; Radiation Hardening: No; Lead Free: Lead Free; Halogen Free: Halogen Free; REACH SVHC: No SVHC; ComponentLink1URL: https://datasheet.ciiva.com/1240/bat54clt1-d-1240707.pdf?src-supplier=Newark; ComponentLink1Description: https://datasheet.ciiva.com/1240/bat54clt1-d-1240707.pdf?src-supplier=Newark; ComponentLink2URL: https://datasheet.ciiva.com/34301/885769-34301654.pdf?src-supplier=Jameco; ComponentLink2Description: https://datasheet.ciiva.com/34301/885769-34301654.pdf?src-supplier=Jameco; ComponentLink3URL: https://datasheet.ciiva.com/30479/0900766b8121b932-30479128.pdf?src-supplier=RSComponents; ComponentLink3Description: https://datasheet.ciiva.com/30479/0900766b8121b932-30479128.pdf?src-supplier=RSComponents; ComponentLink4URL: https://datasheet.ciiva.com/15144/getdatasheetpartid-98336-15144809.pdf?src-supplier=Verical; ComponentLink4Description: https://datasheet.ciiva.com/15144/getdatasheetpartid-98336-15144809.pdf?src-supplier=Verical; ComponentLink5URL: https://datasheet.ciiva.com/22659/1918740-22659014.pdf?src-supplier=Element14; ComponentLink5Description: https://datasheet.ciiva.com/22659/1918740-22659014.pdf?src-supplier=Element14; ComponentLink6URL: https://datasheet.ciiva.com/1180/bat54clt1-d-1180247.pdf?src-supplier=Element14; ComponentLink6Description: https://datasheet.ciiva.com/1180/bat54clt1-d-1180247.pdf?src-supplier=Element14; ComponentLink7URL: https://datasheet.ciiva.com/1180/bat54clt1-d-1180248.pdf?src-supplier=Element14; ComponentLink7Description: https://datasheet.ciiva.com/1180/bat54clt1-d-1180248.pdf?src-supplier=Element14; ComponentLink8URL: https://datasheet.ciiva.com/16205/bat54clt1-d-16205033.pdf?src-supplier=Future+Electronics; ComponentLink8Description: https://datasheet.ciiva.com/16205/bat54clt1-d-16205033.pdf?src-supplier=Future+Electronics; ComponentLink9URL: https://datasheet.ciiva.com/905/bat54clt1-d-905835.pdf?src-supplier=Digi-Key; ComponentLink9Description: https://datasheet.ciiva.com/905/bat54clt1-d-905835.pdf?src-supplier=Digi-Key; ComponentLink10URL: https://datasheet.ciiva.com/28655/bat54clt1-d-28655787.pdf?src-supplier=Element14; ComponentLink10Description: https://datasheet.ciiva.com/28655/bat54clt1-d-28655787.pdf?src-supplier=Element14; ComponentLink11URL: https://datasheet.ciiva.com/8294/bat54clt1-d-8294495.pdf?src-supplier=Avnet; ComponentLink11Description: https://datasheet.ciiva.com/8294/bat54clt1-d-8294495.pdf?src-supplier=Avnet; Supplier Part Number 1: BAT54CLT1GOSDKR-ND; Stock 1: 122607; IPC7352C: done; SCHChecked: Initials after checked
footprint BAT54CLT1G_SOT95P240X110-3N (SOT23, 3-Leads, Body 2,90x2,40mm, Pitch 0,95mm, IPC Medium Density)
pins: 1A 1, 2A 2, 3KK 3

## D_BZX84C10LT1G
designator D?, comment BZX84C10LT1G
ON SEMICONDUCTOR - BZX84C10LT1G - Zener Single Diode, 10 V, 225 mW, SOT-23, 6 %, 3 Pins, 150 °C; Material: Plastic; Zener Voltage: 10V; Max Power Dissipation: 225mW; Voltage Tolerance: 6%; Impedance: 20R; Power Dissipation: 300mW; Max Reverse Leakage Current: 200nA; Test Current: 5mA; Zener Current: 10mA; Forward Voltage: 900mV; ESD Protection: Yes; Breakdown Voltage: 10.6V; Supplier 1: Digi-Key; Manufacturer: ON Semiconductor; Manufacturer Part Number: BZX84C10LT1G; RoHS: Yes; Category: Zener Diodes; Stock 1: 24358; Pricing 1: 1=0,13000, 10=0,11800, 25=0,11240, 100=0,04950, 250=0,04752, 500=0,03888, 1000=0,02700 (USD); Case/Package: SOT-23-3; Number of Pins: 3; Contact Plating: Tin,Matte; Min Operating Temperature: -65°C; Max Operating Temperature: 150°C; Packaging: Tape and Reel; Element Configuration: Single; Package Quantity: 3000; Tolerance: 6%; Power Rating: 225mW; Peak Reverse Current: 200nA; Voltage Rating (DC): 10V; Working Voltage: 10V; Length: 0.119inch; Height: 0.044inch; Width: 0.055inch; Radiation Hardening: No; Lead Free: Lead Free; REACH SVHC: No SVHC; Halogen Free: Halogen Free; ComponentLink1URL: https://datasheet.ciiva.com/18435/70100187-18435125.pdf?src-supplier=Allied+Electronics; ComponentLink1Description: https://datasheet.ciiva.com/18435/70100187-18435125.pdf?src-supplier=Allied+Electronics; ComponentLink2URL: https://datasheet.ciiva.com/894/bzx84c2v4lt1-d-894713.pdf?src-supplier=Digi-Key; ComponentLink2Description: https://datasheet.ciiva.com/894/bzx84c2v4lt1-d-894713.pdf?src-supplier=Digi-Key; ComponentLink3URL: https://datasheet.ciiva.com/894/bzx84c2v4lt1-d-894714.pdf?src-supplier=Digi-Key; ComponentLink3Description: https://datasheet.ciiva.com/894/bzx84c2v4lt1-d-894714.pdf?src-supplier=Digi-Key; ComponentLink4URL: https://datasheet.ciiva.com/8345/bzx84c2v4lt1-d-8345770.pdf?src-supplier=Avnet; ComponentLink4Description: https://datasheet.ciiva.com/8345/bzx84c2v4lt1-d-8345770.pdf?src-supplier=Avnet; ComponentLink5URL: https://datasheet.ciiva.com/894/bzx84c2v4lt1-d-894715.pdf?src-supplier=Digi-Key; ComponentLink5Description: https://datasheet.ciiva.com/894/bzx84c2v4lt1-d-894715.pdf?src-supplier=Digi-Key; ComponentLink6URL: https://datasheet.ciiva.com/16419/bzx84c2v4lt1-d-16419756.pdf?src-supplier=Future+Electronics; ComponentLink6Description: https://datasheet.ciiva.com/16419/bzx84c2v4lt1-d-16419756.pdf?src-supplier=Future+Electronics; ComponentLink7URL: https://datasheet.ciiva.com/8026/bzx84c2v4lt1-d-8026718.pdf?src-supplier=Element14; ComponentLink7Description: https://datasheet.ciiva.com/8026/bzx84c2v4lt1-d-8026718.pdf?src-supplier=Element14; ComponentLink8URL: https://datasheet.ciiva.com/16473/bzx84c2v4lt1-d-16473599.pdf?src-supplier=Avnet+Asia; ComponentLink8Description: https://datasheet.ciiva.com/16473/bzx84c2v4lt1-d-16473599.pdf?src-supplier=Avnet+Asia; ComponentLink9URL: https://datasheet.ciiva.com/22626/1874542-22626847.pdf?src-supplier=Element14; ComponentLink9Description: https://datasheet.ciiva.com/22626/1874542-22626847.pdf?src-supplier=Element14; Supplier Part Number 1: BZX84C10LT1GOSCT-ND
footprint BZX84C10-SOT-23-3 (SOT23, 3-Leads, Body 2.92x1.3mm, Pitch 0.95mm)
pins: 1 A, 3 K

## D_TS4148CRZG
designator D?, comment TS4148CRZG
Taiwan Semiconductor TS4148C RZG High Speed Switching Diode 150mW 0603; Element Configuration: Single; Forward Voltage: 1.25V; Peak Non-Repetitive Surge Current: 800mA; Max Repetitive Reverse Voltage (Vrrm): 75V; Max Forward Surge Current (Ifsm): 2A; Reverse Recovery Time: 4ns; PCBChecked: initials after Checked; Supplier 1: Digi-Key; Manufacturer Part Number: TS4148CRZG; RoHS: Yes; Category: Uncategorized; Mount: Surface Mount; Case/Package: SMD/SMT; Number of Pins: 2; Min Operating Temperature: -55°C; Max Operating Temperature: 150°C; Packaging: Tape and Reel; Package Quantity: 5000; Radiation Hardening: No; ComponentLink1URL: https://datasheet.ciiva.com/18168/getdatasheetpartid-464901-18168310.pdf?src-supplier=Verical; ComponentLink1Description: https://datasheet.ciiva.com/18168/getdatasheetpartid-464901-18168310.pdf?src-supplier=Verical; Supplier Part Number 1: TS4148CRZGCT-ND; Manufacturer: Taiwan Semiconductor; Stock 1: 125692; IPC7352C: done; SCHChecked: Initials after checked
footprint D0805 (Chip Resistor, 2-Leads, Body 2,00x1,25mm, IPC Medium Density)
pins: 1K 1, 2A 2

## IC-74LCX244MTCX
designator IC?, comment 74LCX244MTCX
IC BUF NON-INVERT 3.6V 20TSSOP; Manufacturer: ON Semiconductor / Fairchild; Min Supply Voltage: 2V; Propagation Delay: 10ns; Logic Function: Buffer,Inverting; High Level Output Current: -24mA; Low Level Output Current: 24mA; Number of Input Lines: 8; Polarity: Non-Inverting; Number of Elements: 2; Number of Bits per Element: 4; Quiescent Current: 10uA; PCBChecked: initials after Checked; Supplier 1: Digi-Key; Manufacturer Part Number: 74LCX244MTCX; RoHS: Yes; Category: Amplifiers - Op Amps, Buffer, Instrumentation; Mount: Surface Mount; Case/Package: TSSOP; Number of Pins: 20; Weight: 0.191g; Contact Plating: Gold; Min Operating Temperature: -40°C; Max Operating Temperature: 85°C; Packaging: Tape and Reel; Package Quantity: 2500; Max Supply Voltage: 3.6V; Number of Output Lines: 8; Number of Bits: 8; Number of Channels: 8; Number of Inputs: 8; Number of Outputs: 8; Turn-On Delay Time: 10ns; Length: 6.5mm; Height: 0.9mm; Width: 4.4mm; Radiation Hardening: No; REACH SVHC: No SVHC; Lead Free: Lead Free; ComponentLink1URL: https://datasheet.ciiva.com/1832/74lcx244-1832336.pdf?src-supplier=Digi-Key; ComponentLink1Description: https://datasheet.ciiva.com/1832/74lcx244-1832336.pdf?src-supplier=Digi-Key; ComponentLink2URL: https://datasheet.ciiva.com/4788/74lcx244-74461-4788000.pdf?src-supplier=Mouser; ComponentLink2Description: https://datasheet.ciiva.com/4788/74lcx244-74461-4788000.pdf?src-supplier=Mouser; ComponentLink3URL: https://datasheet.ciiva.com/34301/869398-34301621.pdf?src-supplier=Jameco; ComponentLink3Description: https://datasheet.ciiva.com/34301/869398-34301621.pdf?src-supplier=Jameco; ComponentLink4URL: https://datasheet.ciiva.com/30475/0900766b80f9a39b-30475003.pdf?src-supplier=RSComponents; ComponentLink4Description: https://datasheet.ciiva.com/30475/0900766b80f9a39b-30475003.pdf?src-supplier=RSComponents; ComponentLink5URL: https://datasheet.ciiva.com/15094/getdatasheetpartid-93942-15094671.pdf?src-supplier=Verical; ComponentLink5Description: https://datasheet.ciiva.com/15094/getdatasheetpartid-93942-15094671.pdf?src-supplier=Verical; ComponentLink6URL: https://datasheet.ciiva.com/1832/74lcx244-1832337.pdf?src-supplier=Digi-Key; ComponentLink6Description: https://datasheet.ciiva.com/1832/74lcx244-1832337.pdf?src-supplier=Digi-Key; ComponentLink7URL: https://datasheet.ciiva.com/7970/1785341-7970981.pdf?src-supplier=Element14; ComponentLink7Description: https://datasheet.ciiva.com/7970/1785341-7970981.pdf?src-supplier=Element14; ComponentLink8URL: https://datasheet.ciiva.com/1832/74lcx244-1832338.pdf?src-supplier=Digi-Key; ComponentLink8Description: https://datasheet.ciiva.com/1832/74lcx244-1832338.pdf?src-supplier=Digi-Key; ComponentLink9URL: https://datasheet.ciiva.com/26228/74lcx244-26228572.pdf?src-supplier=Avnet+Europe; ComponentLink9Description: https://datasheet.ciiva.com/26228/74lcx244-26228572.pdf?src-supplier=Avnet+Europe; ComponentLink10URL: https://datasheet.ciiva.com/16791/74lcx244-16791774.pdf?src-supplier=Future+Electronics; ComponentLink10Description: https://datasheet.ciiva.com/16791/74lcx244-16791774.pdf?src-supplier=Future+Electronics; ComponentLink11URL: https://datasheet.ciiva.com/48702/001251949-da-01-en-ic-buff-dvr-lo-74lcx244mtcx-tssop-20-fsc-48702199.pdf?src-supplier=Conrad; ComponentLink11Description: https://datasheet.ciiva.com/48702/001251949-da-01-en-ic-buff-dvr-lo-74lcx244mtcx-tssop-20-fsc-48702199.pdf?src-supplier=Conrad; Supplier Part Number 1: 74LCX244MTCXCT-ND; Stock 1: 9538; IPC7352C: done; SCHChecked: Initials after checked
footprint 74LCX244MTCX (TSSOP20)
pins: 1 ~{OE}1 (in), 2 I0 (in), 3 O4 (out), 4 I1 (in), 5 O5 (out), 6 I2 (in), 7 O6 (out), 8 I3 (in), 9 O7 (out), 10 GND, 11 I7 (in), 12 O3 (out), 13 I6 (in), 14 O2 (out), 15 I5 (in), 16 O1 (out), 17 I4 (in), 18 O0 (out), 19 ~{OE}2 (in), 20 Vcc

## IC_MAX3232CSE+T
designator IC?, comment MAX3232CSE+T
RS232 TXRX, 235KBPS, 5.5V, NSOIC-16; Device Type:Transceiver; IC Interface Type:RS232; No. of Drivers:2; Supply Voltage Min:3V; Supply Voltage Max:5.5V; Driver Case Style:NSOIC; No. of Pins:16; Operating Temperature Min:0°C; Operating Temperature Max:70°C; Packaging:Cut Tape; MSL:MSL 1 - Unlimited; Shutdown: No; Brand: MaximIntegrated; Number of Receivers: 2Receiver; Supply Current: 1mA; Number of Drivers: 2Driver; Operating Supply Voltage: 3Vto5.5V; Number of I/Os: 8; Propagation Delay Time ns: 0.3us; Package Version: Rev. G, 01/2016; Number of Transmitters: 2; Logic Function: Transceiver,Receiver; Number of Transceivers: 1; Min Supply Voltage: 3V; Interface: RS-232; PCBChecked: initials after Checked; Datasheet Version: Rev. 7, 01/2007; Data Rate: 235kbps; Package Description: 16-Pin Small Outline Integrated Circuit, Body 9.9 x 3.9 mm, Pitch 1.27 mm; Package / Case: SO-Narrow-16; Package Reference: S16+1; Package URL: http://pdfserv.maximintegrated.com/package_dwgs/21-0041.PDF; Function: Transceiver; Packaging: Reel; Manufacturer URL: http://www.maximintegrated.com/; Maximum Operating Temperature: +70C; Series: MAX3232; Datasheet URL: https://datasheets.maximintegrated.com/en/ds/MAX3222-MAX3241.pdf; Product Category: RS-232InterfaceIC; Operating Temperature Range: 0Cto+70C; Factory Pack Quantity: 2500; Mounting Style: SMD/SMT; Minimum Operating Temperature: 0C; Manufacturer: MaximIntegrated; Mounting Technology: SurfaceMount; RoHS: Details; Supplier 1: Digi-Key; Manufacturer Part Number: MAX3232CSE+T; Category: RS-232 / RS-422 / RS-485 Interface ICs; Mount: Surface Mount; Case/Package: SOIC; Number of Pins: 16; Contact Plating: Tin,Matte; Min Operating Temperature: 0°C; Max Operating Temperature: 70°C; Max Supply Voltage: 5.5V; Package Quantity: 1; Propagation Delay: 0.3us; Nominal Supply Current: 1mA; Length: 10mm; Height: 1.5mm; Width: 4mm; Radiation Hardening: No; Lead Free: Lead Free; REACH SVHC: Unknown; ComponentLink1URL: https://datasheet.ciiva.com/22828/0900766b810e26b2-22828286.pdf?src-supplier=RSComponents; ComponentLink1Description: https://datasheet.ciiva.com/22828/0900766b810e26b2-22828286.pdf?src-supplier=RSComponents; ComponentLink2URL: https://datasheet.ciiva.com/26834/max3232cse-t-26834857.pdf?src-supplier=IIIC; ComponentLink2Description: https://datasheet.ciiva.com/26834/max3232cse-t-26834857.pdf?src-supplier=IIIC; ComponentLink3URL: https://datasheet.ciiva.com/8075/max3222-max3241-8075463.pdf?src-supplier=Element14; ComponentLink3Description: https://datasheet.ciiva.com/8075/max3222-max3241-8075463.pdf?src-supplier=Element14; ComponentLink4URL: https://datasheet.ciiva.com/14084/max3222-max3241-14084906.pdf?src-supplier=Digi-Key; ComponentLink4Description: https://datasheet.ciiva.com/14084/max3222-max3241-14084906.pdf?src-supplier=Digi-Key; ComponentLink5URL: https://datasheet.ciiva.com/14084/max3222-max3241-14084907.pdf?src-supplier=Digi-Key; ComponentLink5Description: https://datasheet.ciiva.com/14084/max3222-max3241-14084907.pdf?src-supplier=Digi-Key; ComponentLink6URL: https://datasheet.ciiva.com/14084/max3222-max3241-14084908.pdf?src-supplier=Digi-Key; ComponentLink6Description: https://datasheet.ciiva.com/14084/max3222-max3241-14084908.pdf?src-supplier=Digi-Key; ComponentLink7URL: https://datasheet.ciiva.com/16641/max3222-max3241-16641885.pdf?src-supplier=Avnet+Europe; ComponentLink7Description: https://datasheet.ciiva.com/16641/max3222-max3241-16641885.pdf?src-supplier=Avnet+Europe; ComponentLink8URL: https://datasheet.ciiva.com/3029/max3222-max3241-3029550.pdf?src-supplier=Avnet; ComponentLink8Description: https://datasheet.ciiva.com/3029/max3222-max3241-3029550.pdf?src-supplier=Avnet; Supplier Part Number 1: MAX3232CSE+TCT-ND; Stock 1: 2484; IPC7352C: done; SCHChecked: Initials after checked
footprint MAX3232 (SOIC 14 pin)
pins: 1 C1+ "Positive Terminal of Voltage-Doubler Charge-Pump Capacitor", 2 V+ (power) "+5.5 V Generated by the Charge Pump", 3 C1- "Negative Terminal of Voltage-Doubler Charge-Pump Capacitor", 4 C2+ "Positive Terminal of Inverting Charge-Pump Capacitor", 5 C2- "Negative Terminal of Inverting Charge-Pump Capacitor", 6 V- (power) "-5.5 V Generated by the Charge Pump", 7 T2OUT (hiz) "RS-232 Transmitter Outputs", 8 R2IN (in) "RS-232 Receiver Inputs", 9 R2OUT (hiz) "TTL/CMOS Receiver Outputs", 10 T2IN (in) "TTL/CMOS Transmitter Inputs", 11 T1IN (in) "TTL/CMOS Transmitter Inputs", 12 R1OUT (hiz) "TTL/CMOS Receiver Outputs", 13 R1IN (in) "RS-232 Receiver Inputs", 14 T1OUT (hiz) "RS-232 Transmitter Outputs", 15 GND (power) "Ground", 16 VCC (power) "+3.0 V to +5.5 V Supply Voltage"